# Altium footprint library QUTMS_DiodeLibrary.PcbLib: 5 footprints
Each footprint in its own frame and in the unit in brackets; x right, y up, seen from the top. Pads: shape width x height; smd on the part's side, far side on the other; paste and mask are expansions set on the pad; w line width, h text height; cw(c..) or ccw(c..) is an arc to the next point about the centre after c.
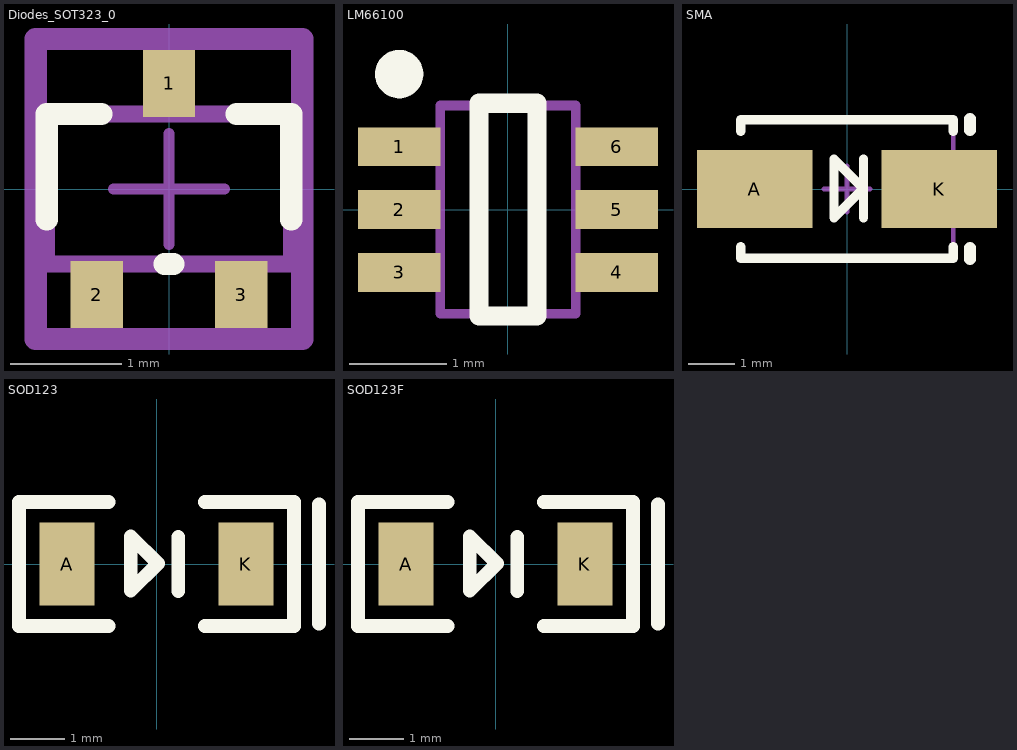
[diagram p0: the footprints below, top view; thin cyan lines are the x and y axes]

## Diodes_SOT323_0 [mm]
pads (3):
  rect 0.47x0.6 smd paste+0 mask+0: 1(0,0.95) 2(-0.65,-0.95) 3(0.65,-0.95)
Top Overlay:
  lines w0.2: -1.1,-0.275 -1.1,0.675 -0.61,0.675 ; -0.04,-0.675 0.04,-0.675 ; 0.61,0.675 1.1,0.675 1.1,-0.275
Mechanical 10:
  lines w0.2: -1.2,-1.35 1.2,-1.35 1.2,1.35 -1.2,1.35 -1.2,-1.35
  text ".Designator" at 0,0 h1
Mechanical 12:
  lines w0.15: -1.1,-0.675 1.1,-0.675 1.1,0.675 -1.1,0.675 -1.1,-0.675
Mechanical 15:
  lines w0.1: -0.5,0 0.5,0 ; 0,-0.5 0,0.5
  lines w0.2: -1.2,-1.35 1.2,-1.35 1.2,1.35 -1.2,1.35 -1.2,-1.35
3D body "Trans_Diodes_BSS138W-7-F_eec.STEP": height 0.25, standoff 0, extent -1.2,-1.35 1.2,1.35

## LM66100 [mm] "Diode, 5.5V"
height 1.1
pads (6):
  rect 0.85x0.4 smd: 1(-1.125,0.65) 2(-1.125,0) 3(-1.125,-0.65) 4(1.125,-0.65) 5(1.125,0) 6(1.125,0.65)
Top Overlay:
  circle w0.25: c-1.125,1.4 r0.125
  lines w0.2: -0.3,-1.1 0.3,-1.1 0.3,1.1 -0.3,1.1 -0.3,-1.1
Mechanical 1:
  lines w0.1: -0.7,-1.075 -0.7,1.075 0.7,1.075 0.7,-1.075 -0.7,-1.075
3D body: height 1.1, standoff 0.15, extent -0.7,-1.075 0.7,1.075

## SMA [mm]
pads (2):
  rect 2.5x1.7 smd: A(-2,0) K(2,0)
Top Overlay:
  lines w0.2: -2.3,-1.25 -2.3,-1.5 2.3,-1.5 2.3,-1.25 ; -2.3,1.25 -2.3,1.5 2.3,1.5 2.3,1.25 ; 0.355,-0.623 0.355,0.647 ; -0.28,-0.623 -0.28,0.647 0.355,0.012 -0.28,-0.623
  lines w0.254: 2.667,-1.524 2.667,-1.27 ; 2.667,1.27 2.667,1.524
Mechanical 1:
  lines w0.1: -2.3,-1.46 2.3,-1.46 2.3,1.46 -2.3,1.46
Mechanical 15:
  lines w0.1: -0.5,0 0.5,0 ; 0,-0.5 0,0.5
3D body "DIOM4326X24L.step": height 2.4, standoff 0, extent -2.52,-1.46 2.52,1.46

## SOD123 [mil]
height 43.31
pads (2):
  rect 40x60 smd: A(-65,0) K(65,0)
Top Overlay:
  lines w10: -35,-45 -100,-45 -100,45 -35,45 ; 15.75,-19.68 15.75,19.68 ; 35,-45 100,-45 100,45 35,45 ; 118.11,-43.31 118.11,43.31 ; -18.71,-19.35 0.98,0.33 -18.71,20.02 -18.71,-19.35
3D body "sod123 v4.step": height 47.24, standoff 0, extent -73.82,-33.47 73.81,33.46

## SOD123F [mil]
height 43.31
pads (2):
  rect 40x60 smd: A(-65,0) K(65,0)
Top Overlay:
  lines w10: -35,-45 -100,-45 -100,45 -35,45 ; 15.75,-19.68 15.75,19.68 ; 35,-45 100,-45 100,45 35,45 ; 118.11,-43.31 118.11,43.31 ; -18.71,-19.35 0.98,0.33 -18.71,20.02 -18.71,-19.35
3D body "SOD-123F.step": height 40.16, standoff 0, extent -74.81,-35.44 74.8,35.42